# Altium schematic symbol library HTP.SchLib: 11 symbols
Pins are listed as number, name and electrical type; pins without a type are passive.

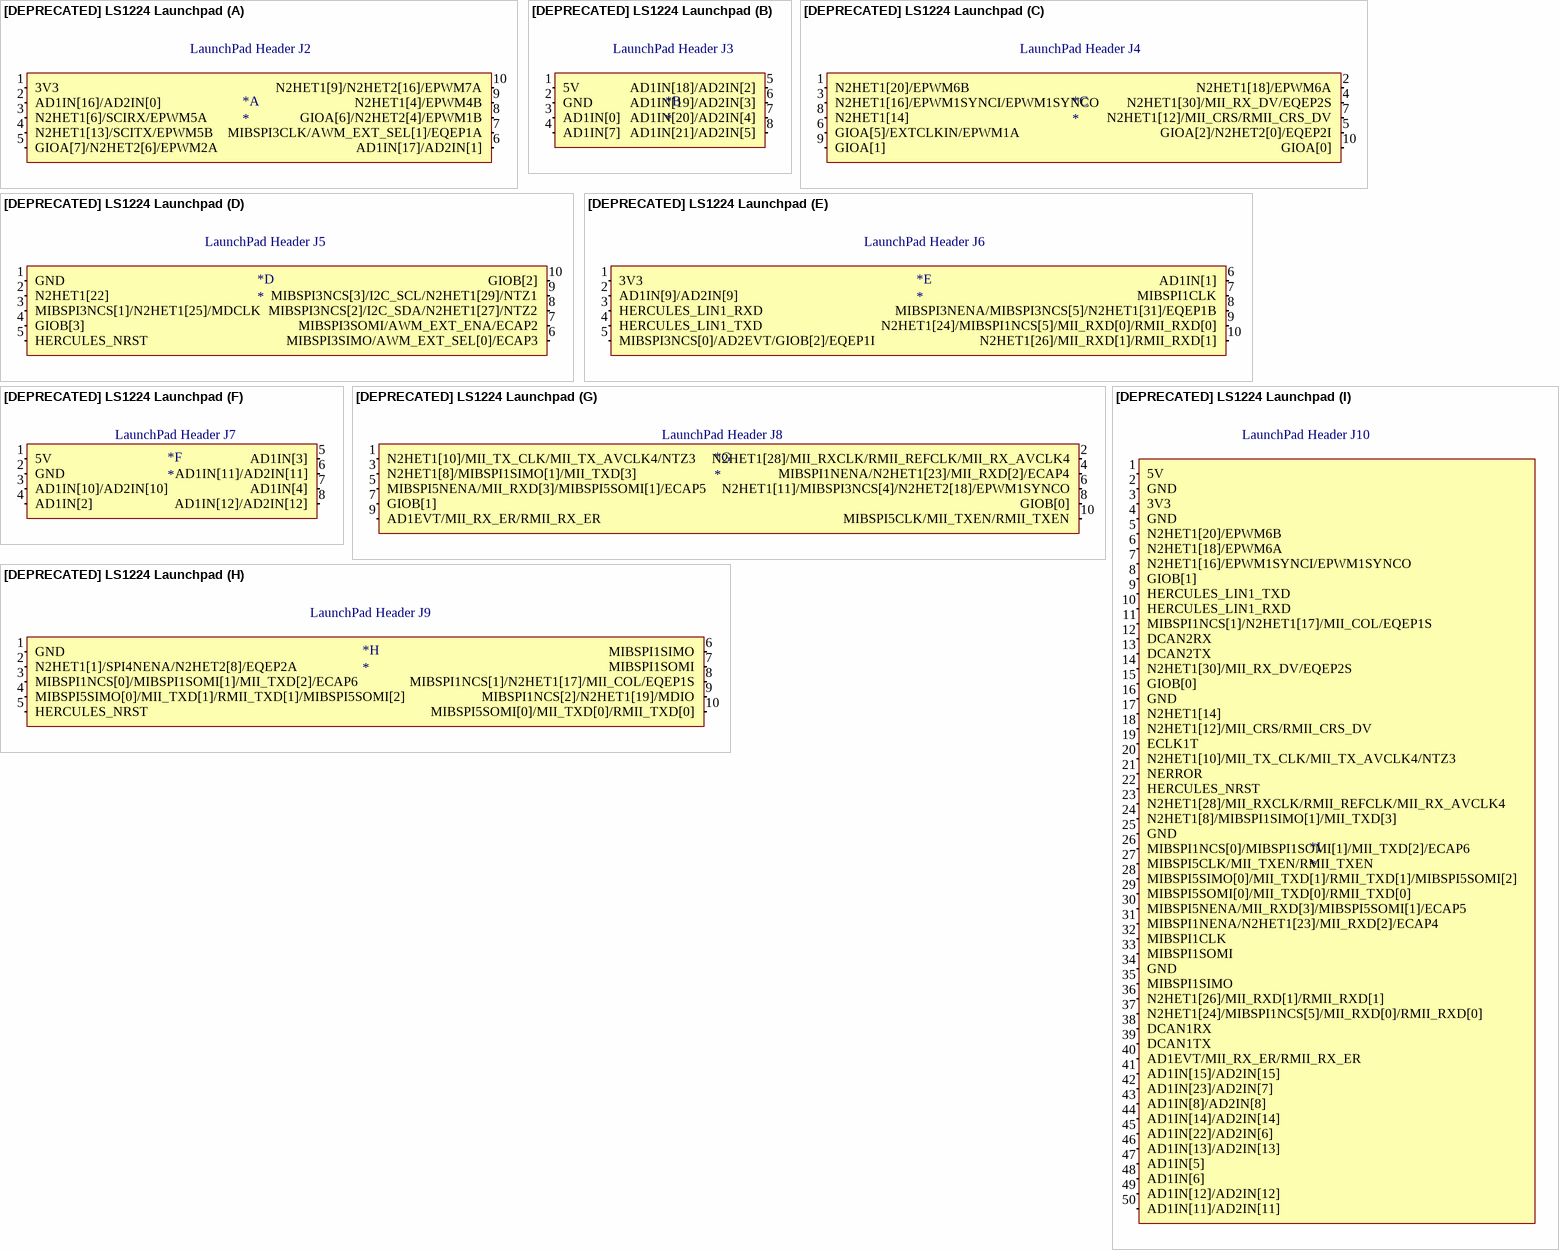
[diagram p0: symbol [DEPRECATED] LS1224 Launchpad]

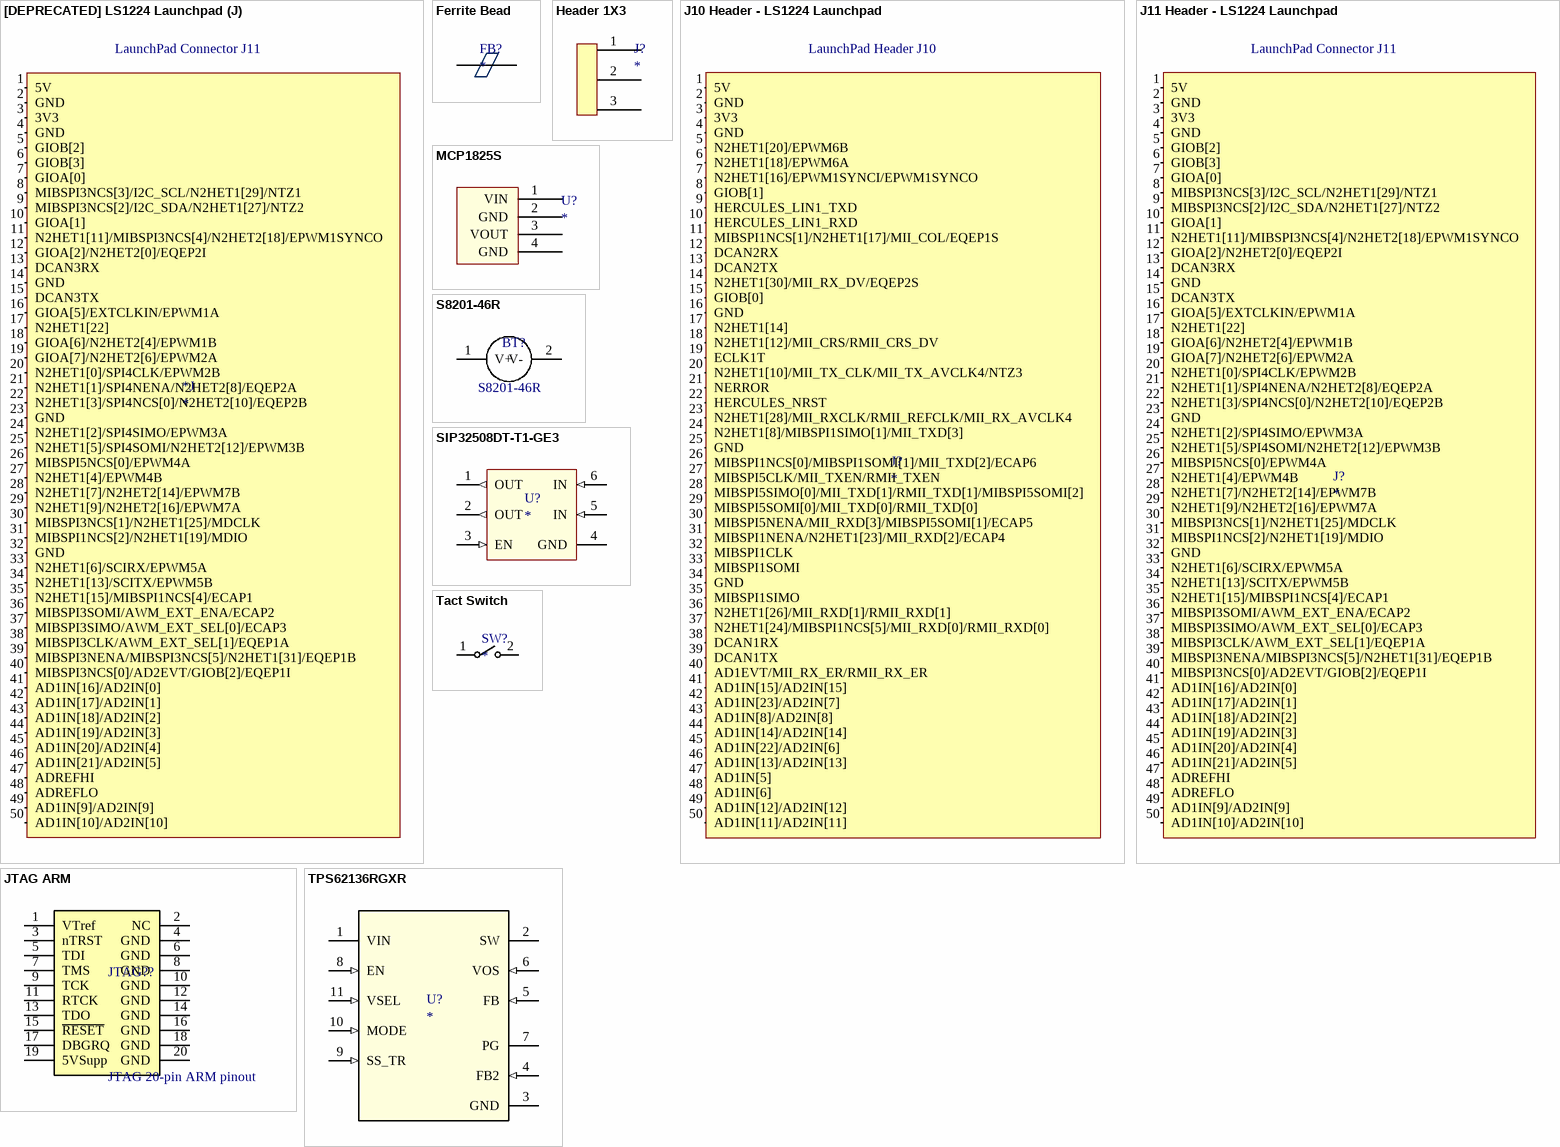
[diagram p1: symbols [DEPRECATED] LS1224 Launchpad to TPS62136RGXR]

## [DEPRECATED] LS1224 Launchpad
designator *
part A pins: 1 3V3 (in), 2 AD1IN[16]/AD2IN[0] (in) "58", 3 N2HET1[6]/SCIRX/EPWM5A (io) "38", 4 N2HET1[13]/SCITX/EPWM5B (io) "39", 5 GIOA[7]/N2HET2[6]/EPWM2A (io) "22", 6 AD1IN[17]/AD2IN[1] (in) "59", 7 MIBSPI3CLK/AWM_EXT_SEL[1]/EQEP1A (io) "53", 8 GIOA[6]/N2HET2[4]/EPWM1B (io) "16", 9 N2HET1[4]/EPWM4B (io) "36", 10 N2HET1[9]/N2HET2[16]/EPWM7A (io) "35"
part B pins: 1 5V (power), 2 GND (power), 3 AD1IN[0] (in) "60", 4 AD1IN[7] (in) "61", 5 AD1IN[18]/AD2IN[2] (in) "62", 6 AD1IN[19]/AD2IN[3] (in) "63", 7 AD1IN[20]/AD2IN[4] (in) "64", 8 AD1IN[21]/AD2IN[5] (in) "65"
part C pins: 1 N2HET1[20]/EPWM6B (io) "141", 2 N2HET1[18]/EPWM6A (io) "140", 3 N2HET1[16]/EPWM1SYNCI/EPWM1SYNCO (io) "139", 4 N2HET1[30]/MII_RX_DV/EQEP2S (io) "127", 5 GIOA[2]/N2HET2[0]/EQEP2I (io) "9", 6 GIOA[5]/EXTCLKIN/EPWM1A (io) "14", 7 N2HET1[12]/MII_CRS/RMII_CRS_DV (io) "124", 8 N2HET1[14] (io) "125", 9 GIOA[1] (io) "5", 10 GIOA[0] (io) "2"
part D pins: 1 GND (power), 2 N2HET1[22] (io) "15", 3 MIBSPI3NCS[1]/N2HET1[25]/MDCLK (io) "37", 4 GIOB[3] (io) "1", 5 HERCULES_NRST (io) "116", 6 MIBSPI3SIMO/AWM_EXT_SEL[0]/ECAP3 (io) "52", 7 MIBSPI3SOMI/AWM_EXT_ENA/ECAP2 (io) "51", 8 MIBSPI3NCS[2]/I2C_SDA/N2HET1[27]/NTZ2 (io) "4", 9 MIBSPI3NCS[3]/I2C_SCL/N2HET1[29]/NTZ1 (io) "3", 10 GIOB[2] (io) "142"
part E pins: 1 3V3 (power), 2 AD1IN[9]/AD2IN[9] (in) "70", 3 HERCULES_LIN1_RXD (io) "131", 4 HERCULES_LIN1_TXD (io) "132", 5 MIBSPI3NCS[0]/AD2EVT/GIOB[2]/EQEP1I (io) "55", 6 AD1IN[1] (in) "71", 7 MIBSPI1CLK (io) "95", 8 MIBSPI3NENA/MIBSPI3NCS[5]/N2HET1[31]/EQEP1B (io) "54", 9 N2HET1[24]/MIBSPI1NCS[5]/MII_RXD[0]/RMII_RXD[0] (io) "91", 10 N2HET1[26]/MII_RXD[1]/RMII_RXD[1] (io) "92"
part F pins: 1 5V (power), 2 GND (power), 3 AD1IN[10]/AD2IN[10] (in) "72", 4 AD1IN[2] (in) "73", 5 AD1IN[3] (in) "74", 6 AD1IN[11]/AD2IN[11] (in) "75", 7 AD1IN[4] (in) "76", 8 AD1IN[12]/AD2IN[12] (in) "77"
part G pins: 1 N2HET1[10]/MII_TX_CLK/MII_TX_AVCLK4/NTZ3 (io) "118", 2 N2HET1[28]/MII_RXCLK/RMII_REFCLK/MII_RX_AVCLK4 (io) "107", 3 N2HET1[8]/MIBSPI1SIMO[1]/MII_TXD[3] (io) "106", 4 MIBSPI1NENA/N2HET1[23]/MII_RXD[2]/ECAP4 (io) "96", 5 MIBSPI5NENA/MII_RXD[3]/MIBSPI5SOMI[1]/ECAP5 (io) "97", 6 N2HET1[11]/MIBSPI3NCS[4]/N2HET2[18]/EPWM1SYNCO (io) "6", 7 GIOB[1] (io) "133", 8 GIOB[0] (io) "126", 9 AD1EVT/MII_RX_ER/RMII_RX_ER (io) "86", 10 MIBSPI5CLK/MII_TXEN/RMII_TXEN (io) "100"
part H pins: 1 GND (power), 2 N2HET1[1]/SPI4NENA/N2HET2[8]/EQEP2A (io) "23", 3 MIBSPI1NCS[0]/MIBSPI1SOMI[1]/MII_TXD[2]/ECAP6 (io) "105", 4 MIBSPI5SIMO[0]/MII_TXD[1]/RMII_TXD[1]/MIBSPI5SOMI[2] (io) "99", 5 HERCULES_NRST (in) "116", 6 MIBSPI1SIMO (io) "93", 7 MIBSPI1SOMI (io) "94", 8 MIBSPI1NCS[1]/N2HET1[17]/MII_COL/EQEP1S (io) "130", 9 MIBSPI1NCS[2]/N2HET1[19]/MDIO (io) "40", 10 MIBSPI5SOMI[0]/MII_TXD[0]/RMII_TXD[0] (io) "98"
part I pins: 1 5V (power), 2 GND (power), 3 3V3 (power), 4 GND (power), 5 N2HET1[20]/EPWM6B (io) "141", 6 N2HET1[18]/EPWM6A (io) "140", 7 N2HET1[16]/EPWM1SYNCI/EPWM1SYNCO (io) "139", 8 GIOB[1] (io) "133", 9 HERCULES_LIN1_TXD (io) "132", 10 HERCULES_LIN1_RXD (io) "131", 11 MIBSPI1NCS[1]/N2HET1[17]/MII_COL/EQEP1S (io) "130", 12 DCAN2RX (io) "129", 13 DCAN2TX (io) "128", 14 N2HET1[30]/MII_RX_DV/EQEP2S (io) "127", 15 GIOB[0] (io) "126", 16 GND (power), 17 N2HET1[14] (io) "125", 18 N2HET1[12]/MII_CRS/RMII_CRS_DV (io) "124", 19 ECLK1T (in), 20 N2HET1[10]/MII_TX_CLK/MII_TX_AVCLK4/NTZ3 (io) "118", 21 NERROR (out) "117", 22 HERCULES_NRST (in) "116", 23 N2HET1[28]/MII_RXCLK/RMII_REFCLK/MII_RX_AVCLK4 (io) "107", 24 N2HET1[8]/MIBSPI1SIMO[1]/MII_TXD[3] (io) "106", 25 GND (power), 26 MIBSPI1NCS[0]/MIBSPI1SOMI[1]/MII_TXD[2]/ECAP6 (io) "105", 27 MIBSPI5CLK/MII_TXEN/RMII_TXEN (io) "100", 28 MIBSPI5SIMO[0]/MII_TXD[1]/RMII_TXD[1]/MIBSPI5SOMI[2] (io) "99", 29 MIBSPI5SOMI[0]/MII_TXD[0]/RMII_TXD[0] (io) "98", 30 MIBSPI5NENA/MII_RXD[3]/MIBSPI5SOMI[1]/ECAP5 (io) "97", 31 MIBSPI1NENA/N2HET1[23]/MII_RXD[2]/ECAP4 (io) "96", 32 MIBSPI1CLK (io) "95", 33 MIBSPI1SOMI (io) "94", 34 GND (power), 35 MIBSPI1SIMO (io) "93", 36 N2HET1[26]/MII_RXD[1]/RMII_RXD[1] (io) "92", 37 N2HET1[24]/MIBSPI1NCS[5]/MII_RXD[0]/RMII_RXD[0] (io) "91", 38 DCAN1RX (io) "90", 39 DCAN1TX (io) "89", 40 AD1EVT/MII_RX_ER/RMII_RX_ER (io) "86", 41 AD1IN[15]/AD2IN[15] (in) "85", 42 AD1IN[23]/AD2IN[7] (in) "84", 43 AD1IN[8]/AD2IN[8] (in) "83", 44 AD1IN[14]/AD2IN[14] (in) "82", 45 AD1IN[22]/AD2IN[6] (in) "81", 46 AD1IN[13]/AD2IN[13] (in) "79", 47 AD1IN[5] (in) "78", 48 AD1IN[6] (in) "80", 49 AD1IN[12]/AD2IN[12] (in) "77", 50 AD1IN[11]/AD2IN[11] (in) "75"
part J pins: 1 5V (power), 2 GND (power), 3 3V3 (power), 4 GND (power), 5 GIOB[2] (io) "142", 6 GIOB[3] (io) "1", 7 GIOA[0] (io) "2", 8 MIBSPI3NCS[3]/I2C_SCL/N2HET1[29]/NTZ1 (io) "3", 9 MIBSPI3NCS[2]/I2C_SDA/N2HET1[27]/NTZ2 (io) "4", 10 GIOA[1] (io) "5", 11 N2HET1[11]/MIBSPI3NCS[4]/N2HET2[18]/EPWM1SYNCO (io) "6", 12 GIOA[2]/N2HET2[0]/EQEP2I (io) "9", 13 DCAN3RX (io) "12", 14 GND (power), 15 DCAN3TX (io) "13", 16 GIOA[5]/EXTCLKIN/EPWM1A (io) "14", 17 N2HET1[22] (io) "15", 18 GIOA[6]/N2HET2[4]/EPWM1B (io) "16", 19 GIOA[7]/N2HET2[6]/EPWM2A (io) "22", 20 N2HET1[0]/SPI4CLK/EPWM2B (io) "25", 21 N2HET1[1]/SPI4NENA/N2HET2[8]/EQEP2A (io) "23", 22 N2HET1[3]/SPI4NCS[0]/N2HET2[10]/EQEP2B (io) "24", 23 GND (power), 24 N2HET1[2]/SPI4SIMO/EPWM3A (io) "30", 25 N2HET1[5]/SPI4SOMI/N2HET2[12]/EPWM3B (io) "31", 26 MIBSPI5NCS[0]/EPWM4A (io) "32", 27 N2HET1[4]/EPWM4B (io) "36", 28 N2HET1[7]/N2HET2[14]/EPWM7B (io) "33", 29 N2HET1[9]/N2HET2[16]/EPWM7A (io) "35", 30 MIBSPI3NCS[1]/N2HET1[25]/MDCLK (io) "37", 31 MIBSPI1NCS[2]/N2HET1[19]/MDIO (io) "40", 32 GND (power), 33 N2HET1[6]/SCIRX/EPWM5A (io) "38", 34 N2HET1[13]/SCITX/EPWM5B (io) "39", 35 N2HET1[15]/MIBSPI1NCS[4]/ECAP1 (io) "41", 36 MIBSPI3SOMI/AWM_EXT_ENA/ECAP2 (io) "51", 37 MIBSPI3SIMO/AWM_EXT_SEL[0]/ECAP3 (io) "52", 38 MIBSPI3CLK/AWM_EXT_SEL[1]/EQEP1A (io) "53", 39 MIBSPI3NENA/MIBSPI3NCS[5]/N2HET1[31]/EQEP1B (io) "54", 40 MIBSPI3NCS[0]/AD2EVT/GIOB[2]/EQEP1I (io) "55", 41 AD1IN[16]/AD2IN[0] (in) "58", 42 AD1IN[17]/AD2IN[1] (in) "59", 43 AD1IN[18]/AD2IN[2] (in) "62", 44 AD1IN[19]/AD2IN[3] (in) "63", 45 AD1IN[20]/AD2IN[4] (in) "64", 46 AD1IN[21]/AD2IN[5] (in) "65", 47 ADREFHI (in) "66", 48 ADREFLO (in) "67", 49 AD1IN[9]/AD2IN[9] (in) "70", 50 AD1IN[10]/AD2IN[10] (in) "72"
part A text: LaunchPad Header J2
part B text: LaunchPad Header J3
part C text: LaunchPad Header J4
part D text: LaunchPad Header J5
part E text: LaunchPad Header J6
part F text: LaunchPad Header J7
part G text: LaunchPad Header J8
part H text: LaunchPad Header J9
part I text: LaunchPad Header J10
part J text: LaunchPad Connector J11

## Ferrite Bead
designator FB?
0805 Ferrite bead
footprint R0805-IPC
pins: 1, 2

## Header 1X3
designator J?
1x3 Pin header
footprint 100MIL HDR 3 POS
pins: 1, 2, 3

## J10 Header - LS1224 Launchpad
designator J?
footprint 50x1 2.54mm Header (50-pin single-row 2.54mm (0.1") header)
pins: 1 5V (power), 2 GND (power), 3 3V3 (power), 4 GND (power), 5 N2HET1[20]/EPWM6B (io) "141", 6 N2HET1[18]/EPWM6A (io) "140", 7 N2HET1[16]/EPWM1SYNCI/EPWM1SYNCO (io) "139", 8 GIOB[1] (io) "133", 9 HERCULES_LIN1_TXD (io) "132", 10 HERCULES_LIN1_RXD (io) "131", 11 MIBSPI1NCS[1]/N2HET1[17]/MII_COL/EQEP1S (io) "130", 12 DCAN2RX (io) "129", 13 DCAN2TX (io) "128", 14 N2HET1[30]/MII_RX_DV/EQEP2S (io) "127", 15 GIOB[0] (io) "126", 16 GND (power), 17 N2HET1[14] (io) "125", 18 N2HET1[12]/MII_CRS/RMII_CRS_DV (io) "124", 19 ECLK1T (in), 20 N2HET1[10]/MII_TX_CLK/MII_TX_AVCLK4/NTZ3 (io) "118", 21 NERROR (out) "117", 22 HERCULES_NRST (in) "116", 23 N2HET1[28]/MII_RXCLK/RMII_REFCLK/MII_RX_AVCLK4 (io) "107", 24 N2HET1[8]/MIBSPI1SIMO[1]/MII_TXD[3] (io) "106", 25 GND (power), 26 MIBSPI1NCS[0]/MIBSPI1SOMI[1]/MII_TXD[2]/ECAP6 (io) "105", 27 MIBSPI5CLK/MII_TXEN/RMII_TXEN (io) "100", 28 MIBSPI5SIMO[0]/MII_TXD[1]/RMII_TXD[1]/MIBSPI5SOMI[2] (io) "99", 29 MIBSPI5SOMI[0]/MII_TXD[0]/RMII_TXD[0] (io) "98", 30 MIBSPI5NENA/MII_RXD[3]/MIBSPI5SOMI[1]/ECAP5 (io) "97", 31 MIBSPI1NENA/N2HET1[23]/MII_RXD[2]/ECAP4 (io) "96", 32 MIBSPI1CLK (io) "95", 33 MIBSPI1SOMI (io) "94", 34 GND (power), 35 MIBSPI1SIMO (io) "93", 36 N2HET1[26]/MII_RXD[1]/RMII_RXD[1] (io) "92", 37 N2HET1[24]/MIBSPI1NCS[5]/MII_RXD[0]/RMII_RXD[0] (io) "91", 38 DCAN1RX (io) "90", 39 DCAN1TX (io) "89", 40 AD1EVT/MII_RX_ER/RMII_RX_ER (io) "86", 41 AD1IN[15]/AD2IN[15] (in) "85", 42 AD1IN[23]/AD2IN[7] (in) "84", 43 AD1IN[8]/AD2IN[8] (in) "83", 44 AD1IN[14]/AD2IN[14] (in) "82", 45 AD1IN[22]/AD2IN[6] (in) "81", 46 AD1IN[13]/AD2IN[13] (in) "79", 47 AD1IN[5] (in) "78", 48 AD1IN[6] (in) "80", 49 AD1IN[12]/AD2IN[12] (in) "77", 50 AD1IN[11]/AD2IN[11] (in) "75"
text: LaunchPad Header J10

## J11 Header - LS1224 Launchpad
designator J?
footprint 50x1 2.54mm Header (50-pin single-row 2.54mm (0.1") header)
pins: 1 5V (power), 2 GND (power), 3 3V3 (power), 4 GND (power), 5 GIOB[2] (io) "142", 6 GIOB[3] (io) "1", 7 GIOA[0] (io) "2", 8 MIBSPI3NCS[3]/I2C_SCL/N2HET1[29]/NTZ1 (io) "3", 9 MIBSPI3NCS[2]/I2C_SDA/N2HET1[27]/NTZ2 (io) "4", 10 GIOA[1] (io) "5", 11 N2HET1[11]/MIBSPI3NCS[4]/N2HET2[18]/EPWM1SYNCO (io) "6", 12 GIOA[2]/N2HET2[0]/EQEP2I (io) "9", 13 DCAN3RX (io) "12", 14 GND (power), 15 DCAN3TX (io) "13", 16 GIOA[5]/EXTCLKIN/EPWM1A (io) "14", 17 N2HET1[22] (io) "15", 18 GIOA[6]/N2HET2[4]/EPWM1B (io) "16", 19 GIOA[7]/N2HET2[6]/EPWM2A (io) "22", 20 N2HET1[0]/SPI4CLK/EPWM2B (io) "25", 21 N2HET1[1]/SPI4NENA/N2HET2[8]/EQEP2A (io) "23", 22 N2HET1[3]/SPI4NCS[0]/N2HET2[10]/EQEP2B (io) "24", 23 GND (power), 24 N2HET1[2]/SPI4SIMO/EPWM3A (io) "30", 25 N2HET1[5]/SPI4SOMI/N2HET2[12]/EPWM3B (io) "31", 26 MIBSPI5NCS[0]/EPWM4A (io) "32", 27 N2HET1[4]/EPWM4B (io) "36", 28 N2HET1[7]/N2HET2[14]/EPWM7B (io) "33", 29 N2HET1[9]/N2HET2[16]/EPWM7A (io) "35", 30 MIBSPI3NCS[1]/N2HET1[25]/MDCLK (io) "37", 31 MIBSPI1NCS[2]/N2HET1[19]/MDIO (io) "40", 32 GND (power), 33 N2HET1[6]/SCIRX/EPWM5A (io) "38", 34 N2HET1[13]/SCITX/EPWM5B (io) "39", 35 N2HET1[15]/MIBSPI1NCS[4]/ECAP1 (io) "41", 36 MIBSPI3SOMI/AWM_EXT_ENA/ECAP2 (io) "51", 37 MIBSPI3SIMO/AWM_EXT_SEL[0]/ECAP3 (io) "52", 38 MIBSPI3CLK/AWM_EXT_SEL[1]/EQEP1A (io) "53", 39 MIBSPI3NENA/MIBSPI3NCS[5]/N2HET1[31]/EQEP1B (io) "54", 40 MIBSPI3NCS[0]/AD2EVT/GIOB[2]/EQEP1I (io) "55", 41 AD1IN[16]/AD2IN[0] (in) "58", 42 AD1IN[17]/AD2IN[1] (in) "59", 43 AD1IN[18]/AD2IN[2] (in) "62", 44 AD1IN[19]/AD2IN[3] (in) "63", 45 AD1IN[20]/AD2IN[4] (in) "64", 46 AD1IN[21]/AD2IN[5] (in) "65", 47 ADREFHI (in) "66", 48 ADREFLO (in) "67", 49 AD1IN[9]/AD2IN[9] (in) "70", 50 AD1IN[10]/AD2IN[10] (in) "72"
text: LaunchPad Connector J11

## JTAG ARM
designator JTAG??, comment JTAG 20-pin ARM pinout
LatestRevisionDate: 17-Jul-2002; LatestRevisionNote: Re-released for DXP Platform.; Publisher: Altium Limited; Supplier 1: Digi-Key
footprint JTAG20-2.54mm
pins: 1 VTref, 2 NC, 3 nTRST, 4 GND, 5 TDI, 6 GND, 7 TMS, 8 GND, 9 TCK, 10 GND, 11 RTCK, 12 GND, 13 TDO, 14 GND, 15 ~{RESET}, 16 GND, 17 DBGRQ, 18 GND, 19 5VSupp, 20 GND

## MCP1825S
designator U?
Linear regulator - factory-set voltage output
footprint SOT230P700X180-4N (SOT223, 4-Leads, Body 6.50x7.00mm (avg), Pitch 2.30mm, IPC Medium Density)
pins: 1 VIN, 2 GND, 3 VOUT, 4 GND

## S8201-46R
designator BT?, comment Manufacture Part Number: S8201-46R  (hidden comment: Battery Retainer Coin, 12.5mm 1 Cell SMD (SMT) Tab)
Battery Retainer Coin, 12.5mm 1 Cell SMD (SMT) Tab - For BR1225, CR1216, CR1220, CR1225; Supplier 1: Digi-Key; Supplier Part Number 1: 952-1662-6-ND
footprint S8201-46R (Battery Retainer Coin, 12.5mm 1 Cell SMD (SMT) Tab)
pins: 1 V+ (power), 2 V- (power)

## SIP32508DT-T1-GE3
designator U?
3A load switch
footprint SOT23127P600-8N
pins: 1 OUT (out), 2 OUT (out), 3 EN (in), 4 GND, 5 IN (in), 6 IN (in)

## Tact Switch
designator SW?
NO Momentary tactile pushbutton switch
footprint Tact Switch SMD (SMD Tactile Switch)
pins: 1, 2

## TPS62136RGXR
designator U?
Buck converter; PartNumber: TPS62136RGXR; Manufacturer: Texas Instruments; RefDes: RefDes; TYPE: TYPE; Value: Value
footprint RGX0011A
pins: 1 VIN (power), 2 SW (power), 3 GND (power), 4 FB2 (in), 5 FB (in), 6 VOS (in), 7 PG (oc), 8 EN (in), 9 SS_TR (in), 10 MODE (in), 11 VSEL (in)